# Altium integrated library Analog_Devices_Power_Management_Linear_Regulators.IntLib: 441 symbols (part 22 of 23)
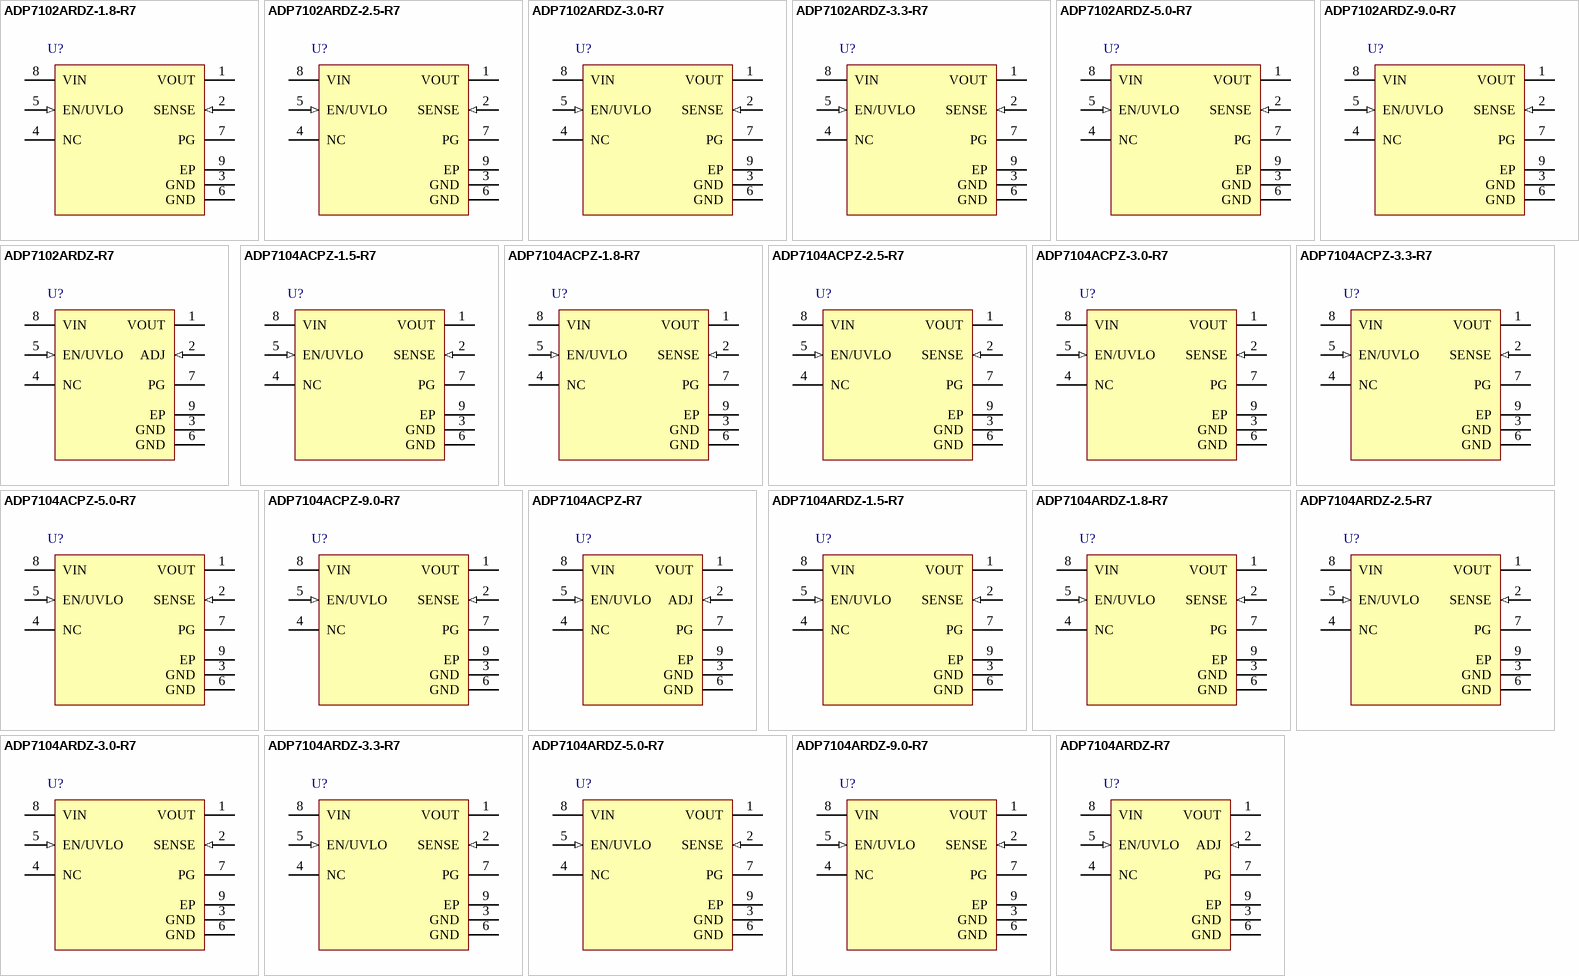
[diagram p32: symbols ADP7102ARDZ-1.8-R7 to ADP7104ARDZ-R7]

## ADP7102ARDZ-2.5-R7
designator U?
300 mA, Low Noise, CMOS LDO, 3.3 to 20 V Vin, 2.5 V Vout, Industrial, 8-pin SOIC (RD-8-2), Reel; Manufacturer: Analog Devices; PartNumber: ADP7102ARDZ-2.5-R7; Iout max: 300mA; Preset Vout Values (V): 2.5; Supply Current IGND @ Small Load: 400uA; Vin (max) (V): 20; Vin (min) (V): 3.3; DatasheetVersion: Rev. A; PackageVersion: Jan-05; PackageReference: RD-8-2; PackageDescription: 8-Pin Standard Small Outline Package, Body 4.9 x 3.9 mm, Pitch 1.27 mm; Supplier 1: Digi-Key; Supplier Part Number 1: ADP7102ARDZ-2.5-R7TR-ND; Supplier 2: Digi-Key; Supplier Part Number 2: ADP7102ARDZ-2.5-R7CT-ND; Supplier 3: Digi-Key; Supplier Part Number 3: ADP7102ARDZ-2.5-R7DKR-ND; Supplier 4: Newark; Supplier Part Number 4: 90T1351; Supplier 5: Mouser; Supplier Part Number 5: 584-ADP7102ARDZ2.5R7; Packing: Reel; Mounting Technology: Surface Mount; Code_JEDEC: MS-012-AA; ComponentLink1Description: Manufacturer URL; ComponentLink1URL: http://www.analog.com/en/index.html; ComponentLink2Description: Datasheet; ComponentLink2URL: http://www.analog.com/static/imported-files/data_sheets/ADP7102.pdf; ComponentLink3Description: Package Specification; ComponentLink3URL: http://www.analog.com/static/imported-files/packages/62062404671038RD_8_2.pdf; ComponentLink4Description: URL Link1; ComponentLink4URL: Product URL:http://www.analog.com/en/ADP7102/productSearch.html
footprint ADI-RD-8-2_N (SOIC, 8-Leads, Body 4.9x3.9mm, Pitch 1.27mm, Thermal Pad 3.098x2.41mm, IPC Medium Density)
footprint ADI-RD-8-2_L (SOIC, 8-Leads, Body 4.9x3.9mm, Pitch 1.27mm, Thermal Pad 3.098x2.41mm, IPC High Density)
footprint ADI-RD-8-2_M (SOIC, 8-Leads, Body 4.9x3.9mm, Pitch 1.27mm, Thermal Pad 3.098x2.41mm, IPC Low Density)
pins: 1 VOUT (power) "Regulated Output Voltage. Bypass VOUT to GND with a 1 uF or greater capacitor.", 2 SENSE (in), 3 GND (power) "Ground.", 4 NC "Do Not Connect to this Pin.", 5 EN/UVLO (in), 6 GND (power) "Ground.", 7 PG (oc) "Power Good. This open-drain output requires an external pull-up resistor to VIN or VOUT. If the part is in shutdown, current limit, thermal shutdown, or falls below 90% of the nominal output voltage, PG immediately (See Datasheet)", 8 VIN (power) "Regulator Input Supply. Bypass VIN to GND with a 1 uF or greater capacitor.", 9 EP (power) "Exposed Pad. Exposed paddle on the bottom of the package. The EPAD enhances thermal performance and is electrically connected to GND inside the package. It is highly recommended that the EPAD be connected to the ground plane (See Datasheet)"

## ADP7102ARDZ-3.0-R7
designator U?
300 mA, Low Noise, CMOS LDO, 3.3 to 20 V Vin, 3 V Vout, Industrial, 8-pin SOIC (RD-8-2), Reel; Manufacturer: Analog Devices; PartNumber: ADP7102ARDZ-3.0-R7; Iout max: 300mA; Preset Vout Values (V): 3.0; Supply Current IGND @ Small Load: 400uA; Vin (max) (V): 20; Vin (min) (V): 3.3; DatasheetVersion: Rev. A; PackageVersion: Jan-05; PackageReference: RD-8-2; PackageDescription: 8-Pin Standard Small Outline Package, Body 4.9 x 3.9 mm, Pitch 1.27 mm; Supplier 1: Digi-Key; Supplier Part Number 1: ADP7102ARDZ-3.0-R7TR-ND; Supplier 2: Digi-Key; Supplier Part Number 2: ADP7102ARDZ-3.0-R7CT-ND; Supplier 3: Digi-Key; Supplier Part Number 3: ADP7102ARDZ-3.0-R7DKR-ND; Supplier 4: Mouser; Supplier Part Number 4: 584-ADP7102ARDZ3.0R7; Packing: Reel; Mounting Technology: Surface Mount; Code_JEDEC: MS-012-AA; ComponentLink1Description: Manufacturer URL; ComponentLink1URL: http://www.analog.com/en/index.html; ComponentLink2Description: Datasheet; ComponentLink2URL: http://www.analog.com/static/imported-files/data_sheets/ADP7102.pdf; ComponentLink3Description: Package Specification; ComponentLink3URL: http://www.analog.com/static/imported-files/packages/62062404671038RD_8_2.pdf; ComponentLink4Description: URL Link1; ComponentLink4URL: Product URL:http://www.analog.com/en/ADP7102/productSearch.html
footprint ADI-RD-8-2_N (SOIC, 8-Leads, Body 4.9x3.9mm, Pitch 1.27mm, Thermal Pad 3.098x2.41mm, IPC Medium Density)
footprint ADI-RD-8-2_L (SOIC, 8-Leads, Body 4.9x3.9mm, Pitch 1.27mm, Thermal Pad 3.098x2.41mm, IPC High Density)
footprint ADI-RD-8-2_M (SOIC, 8-Leads, Body 4.9x3.9mm, Pitch 1.27mm, Thermal Pad 3.098x2.41mm, IPC Low Density)
pins: 1 VOUT (power) "Regulated Output Voltage. Bypass VOUT to GND with a 1 uF or greater capacitor.", 2 SENSE (in), 3 GND (power) "Ground.", 4 NC "Do Not Connect to this Pin.", 5 EN/UVLO (in), 6 GND (power) "Ground.", 7 PG (oc) "Power Good. This open-drain output requires an external pull-up resistor to VIN or VOUT. If the part is in shutdown, current limit, thermal shutdown, or falls below 90% of the nominal output voltage, PG immediately (See Datasheet)", 8 VIN (power) "Regulator Input Supply. Bypass VIN to GND with a 1 uF or greater capacitor.", 9 EP (power) "Exposed Pad. Exposed paddle on the bottom of the package. The EPAD enhances thermal performance and is electrically connected to GND inside the package. It is highly recommended that the EPAD be connected to the ground plane (See Datasheet)"

## ADP7102ARDZ-3.3-R7
designator U?
300 mA, Low Noise, CMOS LDO, 3.3 to 20 V Vin, 3.3 V Vout, Industrial, 8-pin SOIC (RD-8-2), Reel; Manufacturer: Analog Devices; PartNumber: ADP7102ARDZ-3.3-R7; Iout max: 300mA; Preset Vout Values (V): 3.3; Supply Current IGND @ Small Load: 400uA; Vin (max) (V): 20; DatasheetVersion: Rev. A; PackageVersion: Jan-05; PackageReference: RD-8-2; PackageDescription: 8-Pin Standard Small Outline Package, Body 4.9 x 3.9 mm, Pitch 1.27 mm; Supplier 1: Digi-Key; Supplier Part Number 1: ADP7102ARDZ-3.3-R7TR-ND; Supplier 2: Digi-Key; Supplier Part Number 2: ADP7102ARDZ-3.3-R7CT-ND; Supplier 3: Digi-Key; Supplier Part Number 3: ADP7102ARDZ-3.3-R7DKR-ND; Supplier 4: Newark; Supplier Part Number 4: 90T1353; Supplier 5: Mouser; Supplier Part Number 5: 584-ADP7102ARDZ3.3R7; Packing: Reel; Vin (min) (V): 3.3; Mounting Technology: Surface Mount; Code_JEDEC: MS-012-AA; ComponentLink1Description: Manufacturer URL; ComponentLink1URL: http://www.analog.com/en/index.html; ComponentLink2Description: Datasheet; ComponentLink2URL: http://www.analog.com/static/imported-files/data_sheets/ADP7102.pdf; ComponentLink3Description: Package Specification; ComponentLink3URL: http://www.analog.com/static/imported-files/packages/62062404671038RD_8_2.pdf; ComponentLink4Description: URL Link1; ComponentLink4URL: Product URL:http://www.analog.com/en/ADP7102/productSearch.html
footprint ADI-RD-8-2_N (SOIC, 8-Leads, Body 4.9x3.9mm, Pitch 1.27mm, Thermal Pad 3.098x2.41mm, IPC Medium Density)
footprint ADI-RD-8-2_L (SOIC, 8-Leads, Body 4.9x3.9mm, Pitch 1.27mm, Thermal Pad 3.098x2.41mm, IPC High Density)
footprint ADI-RD-8-2_M (SOIC, 8-Leads, Body 4.9x3.9mm, Pitch 1.27mm, Thermal Pad 3.098x2.41mm, IPC Low Density)
pins: 1 VOUT (power) "Regulated Output Voltage. Bypass VOUT to GND with a 1 uF or greater capacitor.", 2 SENSE (in), 3 GND (power) "Ground.", 4 NC "Do Not Connect to this Pin.", 5 EN/UVLO (in), 6 GND (power) "Ground.", 7 PG (oc) "Power Good. This open-drain output requires an external pull-up resistor to VIN or VOUT. If the part is in shutdown, current limit, thermal shutdown, or falls below 90% of the nominal output voltage, PG immediately (See Datasheet)", 8 VIN (power) "Regulator Input Supply. Bypass VIN to GND with a 1 uF or greater capacitor.", 9 EP (power) "Exposed Pad. Exposed paddle on the bottom of the package. The EPAD enhances thermal performance and is electrically connected to GND inside the package. It is highly recommended that the EPAD be connected to the ground plane (See Datasheet)"

## ADP7102ARDZ-5.0-R7
designator U?
300 mA, Low Noise, CMOS LDO, 3.3 to 20 V Vin, 5 V Vout, Industrial, 8-pin SOIC (RD-8-2), Reel; Manufacturer: Analog Devices; PartNumber: ADP7102ARDZ-5.0-R7; Iout max: 300mA; Preset Vout Values (V): 5.0; Supply Current IGND @ Small Load: 400uA; Vin (max) (V): 20; Vin (min) (V): 3.3; DatasheetVersion: Rev. A; PackageVersion: Jan-05; PackageReference: RD-8-2; PackageDescription: 8-Pin Standard Small Outline Package, Body 4.9 x 3.9 mm, Pitch 1.27 mm; Supplier 1: Digi-Key; Supplier Part Number 1: ADP7102ARDZ-5.0-R7TR-ND; Supplier 2: Digi-Key; Supplier Part Number 2: ADP7102ARDZ-5.0-R7CT-ND; Supplier 3: Digi-Key; Supplier Part Number 3: ADP7102ARDZ-5.0-R7DKR-ND; Supplier 4: Newark; Supplier Part Number 4: 90T1354; Supplier 5: Mouser; Supplier Part Number 5: 584-ADP7102ARDZ5.0R7; Packing: Reel; Mounting Technology: Surface Mount; Code_JEDEC: MS-012-AA; ComponentLink1Description: Manufacturer URL; ComponentLink1URL: http://www.analog.com/en/index.html; ComponentLink2Description: Datasheet; ComponentLink2URL: http://www.analog.com/static/imported-files/data_sheets/ADP7102.pdf; ComponentLink3Description: Package Specification; ComponentLink3URL: http://www.analog.com/static/imported-files/packages/62062404671038RD_8_2.pdf; ComponentLink4Description: URL Link1; ComponentLink4URL: Product URL:http://www.analog.com/en/ADP7102/productSearch.html
footprint ADI-RD-8-2_N (SOIC, 8-Leads, Body 4.9x3.9mm, Pitch 1.27mm, Thermal Pad 3.098x2.41mm, IPC Medium Density)
footprint ADI-RD-8-2_L (SOIC, 8-Leads, Body 4.9x3.9mm, Pitch 1.27mm, Thermal Pad 3.098x2.41mm, IPC High Density)
footprint ADI-RD-8-2_M (SOIC, 8-Leads, Body 4.9x3.9mm, Pitch 1.27mm, Thermal Pad 3.098x2.41mm, IPC Low Density)
pins: 1 VOUT (power) "Regulated Output Voltage. Bypass VOUT to GND with a 1 uF or greater capacitor.", 2 SENSE (in), 3 GND (power) "Ground.", 4 NC "Do Not Connect to this Pin.", 5 EN/UVLO (in), 6 GND (power) "Ground.", 7 PG (oc) "Power Good. This open-drain output requires an external pull-up resistor to VIN or VOUT. If the part is in shutdown, current limit, thermal shutdown, or falls below 90% of the nominal output voltage, PG immediately (See Datasheet)", 8 VIN (power) "Regulator Input Supply. Bypass VIN to GND with a 1 uF or greater capacitor.", 9 EP (power) "Exposed Pad. Exposed paddle on the bottom of the package. The EPAD enhances thermal performance and is electrically connected to GND inside the package. It is highly recommended that the EPAD be connected to the ground plane (See Datasheet)"

## ADP7102ARDZ-9.0-R7
designator U?
300 mA, Low Noise, CMOS LDO, 3.3 to 20 V Vin, 9 V Vout, Industrial, 8-pin SOIC (RD-8-2), Reel; Manufacturer: Analog Devices; PartNumber: ADP7102ARDZ-9.0-R7; Iout max: 300mA; Preset Vout Values (V): 9.0; Supply Current IGND @ Small Load: 400uA; Vin (max) (V): 20; Vin (min) (V): 3.3; DatasheetVersion: Rev. A; PackageVersion: Jan-05; PackageReference: RD-8-2; PackageDescription: 8-Pin Standard Small Outline Package, Body 4.9 x 3.9 mm, Pitch 1.27 mm; Supplier 1: Digi-Key; Supplier Part Number 1: ADP7102ARDZ-9.0-R7TR-ND; Supplier 2: Digi-Key; Supplier Part Number 2: ADP7102ARDZ-9.0-R7CT-ND; Supplier 3: Digi-Key; Supplier Part Number 3: ADP7102ARDZ-9.0-R7DKR-ND; Supplier 4: Mouser; Supplier Part Number 4: 584-ADP7102ARDZ9.0R7; Packing: Reel; Mounting Technology: Surface Mount; Code_JEDEC: MS-012-AA; ComponentLink1Description: Manufacturer URL; ComponentLink1URL: http://www.analog.com/en/index.html; ComponentLink2Description: Datasheet; ComponentLink2URL: http://www.analog.com/static/imported-files/data_sheets/ADP7102.pdf; ComponentLink3Description: Package Specification; ComponentLink3URL: http://www.analog.com/static/imported-files/packages/62062404671038RD_8_2.pdf; ComponentLink4Description: URL Link1; ComponentLink4URL: Product URL:http://www.analog.com/en/ADP7102/productSearch.html
footprint ADI-RD-8-2_N (SOIC, 8-Leads, Body 4.9x3.9mm, Pitch 1.27mm, Thermal Pad 3.098x2.41mm, IPC Medium Density)
footprint ADI-RD-8-2_L (SOIC, 8-Leads, Body 4.9x3.9mm, Pitch 1.27mm, Thermal Pad 3.098x2.41mm, IPC High Density)
footprint ADI-RD-8-2_M (SOIC, 8-Leads, Body 4.9x3.9mm, Pitch 1.27mm, Thermal Pad 3.098x2.41mm, IPC Low Density)
pins: 1 VOUT (power) "Regulated Output Voltage. Bypass VOUT to GND with a 1 uF or greater capacitor.", 2 SENSE (in), 3 GND (power) "Ground.", 4 NC "Do Not Connect to this Pin.", 5 EN/UVLO (in), 6 GND (power) "Ground.", 7 PG (oc) "Power Good. This open-drain output requires an external pull-up resistor to VIN or VOUT. If the part is in shutdown, current limit, thermal shutdown, or falls below 90% of the nominal output voltage, PG immediately (See Datasheet)", 8 VIN (power) "Regulator Input Supply. Bypass VIN to GND with a 1 uF or greater capacitor.", 9 EP (power) "Exposed Pad. Exposed paddle on the bottom of the package. The EPAD enhances thermal performance and is electrically connected to GND inside the package. It is highly recommended that the EPAD be connected to the ground plane (See Datasheet)"

## ADP7102ARDZ-R7
designator U?
300 mA, Low Noise, CMOS LDO, 3.3 to 20 V Vin, 1.22 to Vin-Vdo Vout, Industrial, 8-pin SOIC (RD-8-2), Reel; Manufacturer: Analog Devices; PartNumber: ADP7102ARDZ-R7; Iout max: 300mA; Supply Current IGND @ Small Load: 400uA; Vin (max) (V): 20; Vin (min) (V): 3.3; Vout Adjustable Range: 1.22V to 19V; DatasheetVersion: Rev. A; PackageVersion: Jan-05; PackageReference: RD-8-2; PackageDescription: 8-Pin Standard Small Outline Package, Body 4.9 x 3.9 mm, Pitch 1.27 mm; Supplier 1: Digi-Key; Supplier Part Number 1: ADP7102ARDZ-R7TR-ND; Supplier 2: Digi-Key; Supplier Part Number 2: ADP7102ARDZ-R7CT-ND; Supplier 3: Digi-Key; Supplier Part Number 3: ADP7102ARDZ-R7DKR-ND; Supplier 4: Farnell; Supplier Part Number 4: 2070696; Supplier 5: Newark; Supplier Part Number 5: 82T5465; Supplier 6: Newark; Supplier Part Number 6: 72T3550; Supplier 7: Mouser; Supplier Part Number 7: 584-ADP7102ARDZ-R7; Packing: Reel; Mounting Technology: Surface Mount; Code_JEDEC: MS-012-AA; ComponentLink1Description: Manufacturer URL; ComponentLink1URL: http://www.analog.com/en/index.html; ComponentLink2Description: Datasheet; ComponentLink2URL: http://www.analog.com/static/imported-files/data_sheets/ADP7102.pdf; ComponentLink3Description: Package Specification; ComponentLink3URL: http://www.analog.com/static/imported-files/packages/62062404671038RD_8_2.pdf; ComponentLink4Description: URL Link1; ComponentLink4URL: Product URL:http://www.analog.com/en/ADP7102/productSearch.html
footprint ADI-RD-8-2_N (SOIC, 8-Leads, Body 4.9x3.9mm, Pitch 1.27mm, Thermal Pad 3.098x2.41mm, IPC Medium Density)
footprint ADI-RD-8-2_L (SOIC, 8-Leads, Body 4.9x3.9mm, Pitch 1.27mm, Thermal Pad 3.098x2.41mm, IPC High Density)
footprint ADI-RD-8-2_M (SOIC, 8-Leads, Body 4.9x3.9mm, Pitch 1.27mm, Thermal Pad 3.098x2.41mm, IPC Low Density)
pins: 1 VOUT (power) "Regulated Output Voltage. Bypass VOUT to GND with a 1 uF or greater capacitor.", 2 ADJ (in) "Adjust Input (ADJ). An external resistor divider sets the output voltage.", 3 GND (power) "Ground.", 4 NC "Do Not Connect to this Pin.", 5 EN/UVLO (in), 6 GND (power) "Ground.", 7 PG (oc) "Power Good. This open-drain output requires an external pull-up resistor to VIN or VOUT. If the part is in shutdown, current limit, thermal shutdown, or falls below 90% of the nominal output voltage, PG immediately (See Datasheet)", 8 VIN (power) "Regulator Input Supply. Bypass VIN to GND with a 1 uF or greater capacitor.", 9 EP (power) "Exposed Pad. Exposed paddle on the bottom of the package. The EPAD enhances thermal performance and is electrically connected to GND inside the package. It is highly recommended that the EPAD be connected to the ground plane (See Datasheet)"

## ADP7104ACPZ-1.5-R7
designator U?
500 mA, Low Noise, CMOS LDO, 3.3 to 20 V Vin, 1.5 V Vout, Industrial, 8-pin SON (CP-8-5), Reel; Manufacturer: Analog Devices; PartNumber: ADP7104ACPZ-1.5-R7; Iout max: 500mA; Preset Vout Values (V): 1.5; Supply Current IGND @ Small Load: 400uA; Vin (max) (V): 20; Vin (min) (V): 3.3; DatasheetVersion: Rev. B; PackageVersion: 031208-A, 03/2008; PackageReference: CP-8-5; PackageDescription: 8-Pin Lead Frame Chip Scale Package, Body 3 x 3 mm, Pitch 0.5 mm; Supplier 1: Digi-Key; Supplier Part Number 1: ADP7104ACPZ-1.5-R7TR-ND; Supplier 2: Digi-Key; Supplier Part Number 2: ADP7104ACPZ-1.5-R7CT-ND; Supplier 3: Digi-Key; Supplier Part Number 3: ADP7104ACPZ-1.5-R7DKR-ND; Supplier 4: Newark; Supplier Part Number 4: 43W5499; Supplier 5: Mouser; Supplier Part Number 5: 584-ADP7104ACPZ1.5R7; Packing: Reel; Mounting Technology: Surface Mount; ComponentLink1Description: Manufacturer URL; ComponentLink1URL: http://www.analog.com/en/index.html; ComponentLink2Description: Datasheet; ComponentLink2URL: http://www.analog.com/static/imported-files/data_sheets/ADP7104.pdf; ComponentLink3Description: Package Specification; ComponentLink3URL: http://www.analog.com/static/imported-files/packages/PKG_PDF/LFCSP(CP)/CP_8_5.pdf; ComponentLink4Description: URL Link1; ComponentLink4URL: Product URL:http://www.analog.com/en/ADP7104/productSearch.html
footprint ADI-CP-8-5_V (SON, 8-Leads, Body 3x3mm, Pitch 0.5mm, Thermal Pad 1.74x2.38mm)
pins: 1 VOUT (power) "Regulated Output Voltage. Bypass VOUT to GND with a 1 uF or greater capacitor.", 2 SENSE (in), 3 GND (power) "Ground.", 4 NC "Do Not Connect to this Pin.", 5 EN/UVLO (in), 6 GND (power) "Ground.", 7 PG (oc) "Power Good. This open-drain output requires an external pull-up resistor to VIN or VOUT. If the part is in shutdown, current limit, thermal shutdown, or falls below 90% of the nominal output voltage, PG immediately (See Datasheet)", 8 VIN (power) "Regulator Input Supply. Bypass VIN to GND with a 1 uF or greater capacitor.", 9 EP (power) "Exposed Pad. Exposed paddle on the bottom of the package. The EPAD enhances thermal performance and is electrically connected to GND inside the package. It is highly recommended that the EPAD be connected to the ground plane (See Datasheet)"

## ADP7104ACPZ-1.8-R7
designator U?
500 mA, Low Noise, CMOS LDO, 3.3 to 20 V Vin, 1.8 V Vout, Industrial, 8-pin SON (CP-8-5), Reel; Manufacturer: Analog Devices; PartNumber: ADP7104ACPZ-1.8-R7; Iout max: 500mA; Preset Vout Values (V): 1.8; Supply Current IGND @ Small Load: 400uA; Vin (max) (V): 20; Vin (min) (V): 3.3; DatasheetVersion: Rev. B; PackageVersion: 031208-A, 03/2008; PackageReference: CP-8-5; PackageDescription: 8-Pin Lead Frame Chip Scale Package, Body 3 x 3 mm, Pitch 0.5 mm; Supplier 1: Digi-Key; Supplier Part Number 1: ADP7104ACPZ-1.8-R7TR-ND; Supplier 2: Digi-Key; Supplier Part Number 2: ADP7104ACPZ-1.8-R7CT-ND; Supplier 3: Digi-Key; Supplier Part Number 3: ADP7104ACPZ-1.8-R7DKR-ND; Supplier 4: Newark; Supplier Part Number 4: 43W5500; Supplier 5: Mouser; Supplier Part Number 5: 584-ADP7104ACPZ1.8R7; Packing: Reel; Mounting Technology: Surface Mount; ComponentLink1Description: Manufacturer URL; ComponentLink1URL: http://www.analog.com/en/index.html; ComponentLink2Description: Datasheet; ComponentLink2URL: http://www.analog.com/static/imported-files/data_sheets/ADP7104.pdf; ComponentLink3Description: Package Specification; ComponentLink3URL: http://www.analog.com/static/imported-files/packages/PKG_PDF/LFCSP(CP)/CP_8_5.pdf; ComponentLink4Description: URL Link1; ComponentLink4URL: Product URL:http://www.analog.com/en/ADP7104/productSearch.html
footprint ADI-CP-8-5_V (SON, 8-Leads, Body 3x3mm, Pitch 0.5mm, Thermal Pad 1.74x2.38mm)
pins: 1 VOUT (power) "Regulated Output Voltage. Bypass VOUT to GND with a 1 uF or greater capacitor.", 2 SENSE (in), 3 GND (power) "Ground.", 4 NC "Do Not Connect to this Pin.", 5 EN/UVLO (in), 6 GND (power) "Ground.", 7 PG (oc) "Power Good. This open-drain output requires an external pull-up resistor to VIN or VOUT. If the part is in shutdown, current limit, thermal shutdown, or falls below 90% of the nominal output voltage, PG immediately (See Datasheet)", 8 VIN (power) "Regulator Input Supply. Bypass VIN to GND with a 1 uF or greater capacitor.", 9 EP (power) "Exposed Pad. Exposed paddle on the bottom of the package. The EPAD enhances thermal performance and is electrically connected to GND inside the package. It is highly recommended that the EPAD be connected to the ground plane (See Datasheet)"

## ADP7104ACPZ-2.5-R7
designator U?
500 mA, Low Noise, CMOS LDO, 3.3 to 20 V Vin, 2.5 V Vout, Industrial, 8-pin SON (CP-8-5), Reel; Manufacturer: Analog Devices; PartNumber: ADP7104ACPZ-2.5-R7; Iout max: 500mA; Preset Vout Values (V): 2.5; Supply Current IGND @ Small Load: 400uA; Vin (max) (V): 20; Vin (min) (V): 3.3; DatasheetVersion: Rev. B; PackageVersion: 031208-A, 03/2008; PackageReference: CP-8-5; PackageDescription: 8-Pin Lead Frame Chip Scale Package, Body 3 x 3 mm, Pitch 0.5 mm; Supplier 1: Digi-Key; Supplier Part Number 1: ADP7104ACPZ-2.5-R7TR-ND; Supplier 2: Digi-Key; Supplier Part Number 2: ADP7104ACPZ-2.5-R7CT-ND; Supplier 3: Digi-Key; Supplier Part Number 3: ADP7104ACPZ-2.5-R7DKR-ND; Supplier 4: Mouser; Supplier Part Number 4: 584-ADP7104ACPZ2.5R7; Packing: Reel; Mounting Technology: Surface Mount; ComponentLink1Description: Manufacturer URL; ComponentLink1URL: http://www.analog.com/en/index.html; ComponentLink2Description: Datasheet; ComponentLink2URL: http://www.analog.com/static/imported-files/data_sheets/ADP7104.pdf; ComponentLink3Description: Package Specification; ComponentLink3URL: http://www.analog.com/static/imported-files/packages/PKG_PDF/LFCSP(CP)/CP_8_5.pdf; ComponentLink4Description: URL Link1; ComponentLink4URL: Product URL:http://www.analog.com/en/ADP7104/productSearch.html
footprint ADI-CP-8-5_V (SON, 8-Leads, Body 3x3mm, Pitch 0.5mm, Thermal Pad 1.74x2.38mm)
pins: 1 VOUT (power) "Regulated Output Voltage. Bypass VOUT to GND with a 1 uF or greater capacitor.", 2 SENSE (in), 3 GND (power) "Ground.", 4 NC "Do Not Connect to this Pin.", 5 EN/UVLO (in), 6 GND (power) "Ground.", 7 PG (oc) "Power Good. This open-drain output requires an external pull-up resistor to VIN or VOUT. If the part is in shutdown, current limit, thermal shutdown, or falls below 90% of the nominal output voltage, PG immediately (See Datasheet)", 8 VIN (power) "Regulator Input Supply. Bypass VIN to GND with a 1 uF or greater capacitor.", 9 EP (power) "Exposed Pad. Exposed paddle on the bottom of the package. The EPAD enhances thermal performance and is electrically connected to GND inside the package. It is highly recommended that the EPAD be connected to the ground plane (See Datasheet)"

## ADP7104ACPZ-3.0-R7
designator U?
500 mA, Low Noise, CMOS LDO, 3.3 to 20 V Vin, 3 V Vout, Industrial, 8-pin SON (CP-8-5), Reel; Manufacturer: Analog Devices; PartNumber: ADP7104ACPZ-3.0-R7; Iout max: 500mA; Preset Vout Values (V): 3.0; Supply Current IGND @ Small Load: 400uA; Vin (max) (V): 20; Vin (min) (V): 3.3; DatasheetVersion: Rev. B; PackageVersion: 031208-A, 03/2008; PackageReference: CP-8-5; PackageDescription: 8-Pin Lead Frame Chip Scale Package, Body 3 x 3 mm, Pitch 0.5 mm; Supplier 1: Digi-Key; Supplier Part Number 1: ADP7104ACPZ-3.0-R7TR-ND; Supplier 2: Digi-Key; Supplier Part Number 2: ADP7104ACPZ-3.0-R7CT-ND; Supplier 3: Digi-Key; Supplier Part Number 3: ADP7104ACPZ-3.0-R7DKR-ND; Supplier 4: Mouser; Supplier Part Number 4: 584-ADP7104ACPZ3.0R7; Packing: Reel; Mounting Technology: Surface Mount; ComponentLink1Description: Manufacturer URL; ComponentLink1URL: http://www.analog.com/en/index.html; ComponentLink2Description: Datasheet; ComponentLink2URL: http://www.analog.com/static/imported-files/data_sheets/ADP7104.pdf; ComponentLink3Description: Package Specification; ComponentLink3URL: http://www.analog.com/static/imported-files/packages/PKG_PDF/LFCSP(CP)/CP_8_5.pdf; ComponentLink4Description: URL Link1; ComponentLink4URL: Product URL:http://www.analog.com/en/ADP7104/productSearch.html
footprint ADI-CP-8-5_V (SON, 8-Leads, Body 3x3mm, Pitch 0.5mm, Thermal Pad 1.74x2.38mm)
pins: 1 VOUT (power) "Regulated Output Voltage. Bypass VOUT to GND with a 1 uF or greater capacitor.", 2 SENSE (in), 3 GND (power) "Ground.", 4 NC "Do Not Connect to this Pin.", 5 EN/UVLO (in), 6 GND (power) "Ground.", 7 PG (oc) "Power Good. This open-drain output requires an external pull-up resistor to VIN or VOUT. If the part is in shutdown, current limit, thermal shutdown, or falls below 90% of the nominal output voltage, PG immediately (See Datasheet)", 8 VIN (power) "Regulator Input Supply. Bypass VIN to GND with a 1 uF or greater capacitor.", 9 EP (power) "Exposed Pad. Exposed paddle on the bottom of the package. The EPAD enhances thermal performance and is electrically connected to GND inside the package. It is highly recommended that the EPAD be connected to the ground plane (See Datasheet)"

## ADP7104ACPZ-3.3-R7
designator U?
500 mA, Low Noise, CMOS LDO, 3.3 to 20 V Vin, 3.3 V Vout, Industrial, 8-pin SON (CP-8-5), Reel; Manufacturer: Analog Devices; PartNumber: ADP7104ACPZ-3.3-R7; Iout max: 500mA; Preset Vout Values (V): 3.3; Supply Current IGND @ Small Load: 400uA; Vin (max) (V): 20; DatasheetVersion: Rev. B; PackageVersion: 031208-A, 03/2008; PackageReference: CP-8-5; PackageDescription: 8-Pin Lead Frame Chip Scale Package, Body 3 x 3 mm, Pitch 0.5 mm; Supplier 1: Digi-Key; Supplier Part Number 1: ADP7104ACPZ-3.3-R7TR-ND; Supplier 2: Digi-Key; Supplier Part Number 2: ADP7104ACPZ-3.3-R7CT-ND; Supplier 3: Digi-Key; Supplier Part Number 3: ADP7104ACPZ-3.3-R7DKR-ND; Supplier 4: Newark; Supplier Part Number 4: 43W5503; Supplier 5: Mouser; Supplier Part Number 5: 584-ADP7104ACPZ3.3R7; Packing: Reel; Vin (min) (V): 3.3; Mounting Technology: Surface Mount; ComponentLink1Description: Manufacturer URL; ComponentLink1URL: http://www.analog.com/en/index.html; ComponentLink2Description: Datasheet; ComponentLink2URL: http://www.analog.com/static/imported-files/data_sheets/ADP7104.pdf; ComponentLink3Description: Package Specification; ComponentLink3URL: http://www.analog.com/static/imported-files/packages/PKG_PDF/LFCSP(CP)/CP_8_5.pdf; ComponentLink4Description: URL Link1; ComponentLink4URL: Product URL:http://www.analog.com/en/ADP7104/productSearch.html
footprint ADI-CP-8-5_V (SON, 8-Leads, Body 3x3mm, Pitch 0.5mm, Thermal Pad 1.74x2.38mm)
pins: 1 VOUT (power) "Regulated Output Voltage. Bypass VOUT to GND with a 1 uF or greater capacitor.", 2 SENSE (in), 3 GND (power) "Ground.", 4 NC "Do Not Connect to this Pin.", 5 EN/UVLO (in), 6 GND (power) "Ground.", 7 PG (oc) "Power Good. This open-drain output requires an external pull-up resistor to VIN or VOUT. If the part is in shutdown, current limit, thermal shutdown, or falls below 90% of the nominal output voltage, PG immediately (See Datasheet)", 8 VIN (power) "Regulator Input Supply. Bypass VIN to GND with a 1 uF or greater capacitor.", 9 EP (power) "Exposed Pad. Exposed paddle on the bottom of the package. The EPAD enhances thermal performance and is electrically connected to GND inside the package. It is highly recommended that the EPAD be connected to the ground plane (See Datasheet)"

## ADP7104ACPZ-5.0-R7
designator U?
500 mA, Low Noise, CMOS LDO, 3.3 to 20 V Vin, 5 V Vout, Industrial, 8-pin SON (CP-8-5), Reel; Manufacturer: Analog Devices; PartNumber: ADP7104ACPZ-5.0-R7; Iout max: 500mA; Preset Vout Values (V): 5.0; Supply Current IGND @ Small Load: 400uA; Vin (max) (V): 20; Vin (min) (V): 3.3; DatasheetVersion: Rev. B; PackageVersion: 031208-A, 03/2008; PackageReference: CP-8-5; PackageDescription: 8-Pin Lead Frame Chip Scale Package, Body 3 x 3 mm, Pitch 0.5 mm; Supplier 1: Digi-Key; Supplier Part Number 1: ADP7104ACPZ-5.0-R7TR-ND; Supplier 2: Digi-Key; Supplier Part Number 2: ADP7104ACPZ-5.0-R7CT-ND; Supplier 3: Digi-Key; Supplier Part Number 3: ADP7104ACPZ-5.0-R7DKR-ND; Supplier 4: Newark; Supplier Part Number 4: 43W5504; Supplier 5: Mouser; Supplier Part Number 5: 584-ADP7104ACPZ5.0R7; Packing: Reel; Mounting Technology: Surface Mount; ComponentLink1Description: Manufacturer URL; ComponentLink1URL: http://www.analog.com/en/index.html; ComponentLink2Description: Datasheet; ComponentLink2URL: http://www.analog.com/static/imported-files/data_sheets/ADP7104.pdf; ComponentLink3Description: Package Specification; ComponentLink3URL: http://www.analog.com/static/imported-files/packages/PKG_PDF/LFCSP(CP)/CP_8_5.pdf; ComponentLink4Description: URL Link1; ComponentLink4URL: Product URL:http://www.analog.com/en/ADP7104/productSearch.html
footprint ADI-CP-8-5_V (SON, 8-Leads, Body 3x3mm, Pitch 0.5mm, Thermal Pad 1.74x2.38mm)
pins: 1 VOUT (power) "Regulated Output Voltage. Bypass VOUT to GND with a 1 uF or greater capacitor.", 2 SENSE (in), 3 GND (power) "Ground.", 4 NC "Do Not Connect to this Pin.", 5 EN/UVLO (in), 6 GND (power) "Ground.", 7 PG (oc) "Power Good. This open-drain output requires an external pull-up resistor to VIN or VOUT. If the part is in shutdown, current limit, thermal shutdown, or falls below 90% of the nominal output voltage, PG immediately (See Datasheet)", 8 VIN (power) "Regulator Input Supply. Bypass VIN to GND with a 1 uF or greater capacitor.", 9 EP (power) "Exposed Pad. Exposed paddle on the bottom of the package. The EPAD enhances thermal performance and is electrically connected to GND inside the package. It is highly recommended that the EPAD be connected to the ground plane (See Datasheet)"

## ADP7104ACPZ-9.0-R7
designator U?
500 mA, Low Noise, CMOS LDO, 3.3 to 20 V Vin, 9 V Vout, Industrial, 8-pin SON (CP-8-5), Reel; Manufacturer: Analog Devices; PartNumber: ADP7104ACPZ-9.0-R7; Iout max: 500mA; Preset Vout Values (V): 9.0; Supply Current IGND @ Small Load: 400uA; Vin (max) (V): 20; Vin (min) (V): 3.3; DatasheetVersion: Rev. B; PackageVersion: 031208-A, 03/2008; PackageReference: CP-8-5; PackageDescription: 8-Pin Lead Frame Chip Scale Package, Body 3 x 3 mm, Pitch 0.5 mm; Supplier 1: Digi-Key; Supplier Part Number 1: ADP7104ACPZ-9.0-R7TR-ND; Supplier 2: Digi-Key; Supplier Part Number 2: ADP7104ACPZ-9.0-R7CT-ND; Supplier 3: Digi-Key; Supplier Part Number 3: ADP7104ACPZ-9.0-R7DKR-ND; Supplier 4: Mouser; Supplier Part Number 4: 584-ADP7104ACPZ9.0R7; Packing: Reel; Mounting Technology: Surface Mount; ComponentLink1Description: Manufacturer URL; ComponentLink1URL: http://www.analog.com/en/index.html; ComponentLink2Description: Datasheet; ComponentLink2URL: http://www.analog.com/static/imported-files/data_sheets/ADP7104.pdf; ComponentLink3Description: Package Specification; ComponentLink3URL: http://www.analog.com/static/imported-files/packages/PKG_PDF/LFCSP(CP)/CP_8_5.pdf; ComponentLink4Description: URL Link1; ComponentLink4URL: Product URL:http://www.analog.com/en/ADP7104/productSearch.html
footprint ADI-CP-8-5_V (SON, 8-Leads, Body 3x3mm, Pitch 0.5mm, Thermal Pad 1.74x2.38mm)
pins: 1 VOUT (power) "Regulated Output Voltage. Bypass VOUT to GND with a 1 uF or greater capacitor.", 2 SENSE (in), 3 GND (power) "Ground.", 4 NC "Do Not Connect to this Pin.", 5 EN/UVLO (in), 6 GND (power) "Ground.", 7 PG (oc) "Power Good. This open-drain output requires an external pull-up resistor to VIN or VOUT. If the part is in shutdown, current limit, thermal shutdown, or falls below 90% of the nominal output voltage, PG immediately (See Datasheet)", 8 VIN (power) "Regulator Input Supply. Bypass VIN to GND with a 1 uF or greater capacitor.", 9 EP (power) "Exposed Pad. Exposed paddle on the bottom of the package. The EPAD enhances thermal performance and is electrically connected to GND inside the package. It is highly recommended that the EPAD be connected to the ground plane (See Datasheet)"

## ADP7104ACPZ-R7
designator U?
500 mA, Low Noise, CMOS LDO, 3.3 to 20 V Vin, 1.21 to 1.23 V Vout, Industrial, 8-pin SON (CP-8-5), Reel; Manufacturer: Analog Devices; PartNumber: ADP7104ACPZ-R7; Iout max: 500mA; Supply Current IGND @ Small Load: 400uA; Vin (max) (V): 20; Vin (min) (V): 3.3; Vout Adjustable Range: 1.22V to 19V; DatasheetVersion: Rev. B; PackageVersion: 031208-A, 03/2008; PackageReference: CP-8-5; PackageDescription: 8-Pin Lead Frame Chip Scale Package, Body 3 x 3 mm, Pitch 0.5 mm; Supplier 1: Digi-Key; Supplier Part Number 1: ADP7104ACPZ-R7TR-ND; Supplier 2: Digi-Key; Supplier Part Number 2: ADP7104ACPZ-R7CT-ND; Supplier 3: Digi-Key; Supplier Part Number 3: ADP7104ACPZ-R7DKR-ND; Supplier 4: Newark; Supplier Part Number 4: 72T3551; Supplier 5: Mouser; Supplier Part Number 5: 584-ADP7104ACPZ-R7; Packing: Reel; Mounting Technology: Surface Mount; ComponentLink1Description: Manufacturer URL; ComponentLink1URL: http://www.analog.com/en/index.html; ComponentLink2Description: Datasheet; ComponentLink2URL: http://www.analog.com/static/imported-files/data_sheets/ADP7104.pdf; ComponentLink3Description: Package Specification; ComponentLink3URL: http://www.analog.com/static/imported-files/packages/PKG_PDF/LFCSP(CP)/CP_8_5.pdf; ComponentLink4Description: URL Link1; ComponentLink4URL: Product URL:http://www.analog.com/en/ADP7104/productSearch.html
footprint ADI-CP-8-5_V (SON, 8-Leads, Body 3x3mm, Pitch 0.5mm, Thermal Pad 1.74x2.38mm)
pins: 1 VOUT (power) "Regulated Output Voltage. Bypass VOUT to GND with a 1 uF or greater capacitor.", 2 ADJ (in) "Adjust Input (ADJ). An external resistor divider sets the output voltage. This function applies to adjustable voltages only.", 3 GND (power) "Ground.", 4 NC "Do Not Connect to this Pin.", 5 EN/UVLO (in) "Enable Input (EN). Drive EN high to turn on the regulator; drive EN low to turn off the regulator. For automatic startup, connect EN to VIN. Programmable Undervoltage Lockout (UVLO). When the programmable UVLO function is (See Datasheet)", 6 GND (power) "Ground.", 7 PG (oc) "Power Good. This open-drain output requires an external pull-up resistor to VIN or VOUT. If the part is in shutdown, current limit, thermal shutdown, or falls below 90% of the nominal output voltage, PG immediately (See Datasheet)", 8 VIN (power) "Regulator Input Supply. Bypass VIN to GND with a 1 uF or greater capacitor.", 9 EP (power) "Exposed Pad. Exposed paddle on the bottom of the package. The EPAD enhances thermal performance and is electrically connected to GND inside the package. It is highly recommended that the EPAD be connected to the ground plane (See Datasheet)"

## ADP7104ARDZ-1.5-R7
designator U?
500 mA, Low Noise, CMOS LDO, 3.3 to 20 V Vin, 1.5 V Vout, Industrial, 8-pin SOIC (RD-8-2), Reel; Manufacturer: Analog Devices; PartNumber: ADP7104ARDZ-1.5-R7; Iout max: 500mA; Preset Vout Values (V): 1.5; Supply Current IGND @ Small Load: 400uA; Vin (max) (V): 20; Vin (min) (V): 3.3; DatasheetVersion: Rev. B; PackageVersion: Jan-05; PackageReference: RD-8-2; PackageDescription: 8-Pin Standard Small Outline Package, Body 4.9 x 3.9 mm, Pitch 1.27 mm; Supplier 1: Digi-Key; Supplier Part Number 1: ADP7104ARDZ-1.5-R7TR-ND; Supplier 2: Digi-Key; Supplier Part Number 2: ADP7104ARDZ-1.5-R7CT-ND; Supplier 3: Digi-Key; Supplier Part Number 3: ADP7104ARDZ-1.5-R7DKR-ND; Supplier 4: Mouser; Supplier Part Number 4: 584-ADP7104ARDZ1.5R7; Packing: Reel; Mounting Technology: Surface Mount; Code_JEDEC: MS-012-AA; ComponentLink1Description: Manufacturer URL; ComponentLink1URL: http://www.analog.com/en/index.html; ComponentLink2Description: Datasheet; ComponentLink2URL: http://www.analog.com/static/imported-files/data_sheets/ADP7104.pdf; ComponentLink3Description: Package Specification; ComponentLink3URL: http://www.analog.com/static/imported-files/packages/62062404671038RD_8_2.pdf; ComponentLink4Description: URL Link1; ComponentLink4URL: Product URL:http://www.analog.com/en/ADP7104/productSearch.html
footprint ADI-RD-8-2_N (SOIC, 8-Leads, Body 4.9x3.9mm, Pitch 1.27mm, Thermal Pad 3.098x2.41mm, IPC Medium Density)
footprint ADI-RD-8-2_L (SOIC, 8-Leads, Body 4.9x3.9mm, Pitch 1.27mm, Thermal Pad 3.098x2.41mm, IPC High Density)
footprint ADI-RD-8-2_M (SOIC, 8-Leads, Body 4.9x3.9mm, Pitch 1.27mm, Thermal Pad 3.098x2.41mm, IPC Low Density)
pins: 1 VOUT (power) "Regulated Output Voltage. Bypass VOUT to GND with a 1 uF or greater capacitor.", 2 SENSE (in), 3 GND (power) "Ground.", 4 NC "Do Not Connect to this Pin.", 5 EN/UVLO (in), 6 GND (power) "Ground.", 7 PG (oc) "Power Good. This open-drain output requires an external pull-up resistor to VIN or VOUT. If the part is in shutdown, current limit, thermal shutdown, or falls below 90% of the nominal output voltage, PG immediately (See Datasheet)", 8 VIN (power) "Regulator Input Supply. Bypass VIN to GND with a 1 uF or greater capacitor.", 9 EP (power) "Exposed Pad. Exposed paddle on the bottom of the package. The EPAD enhances thermal performance and is electrically connected to GND inside the package. It is highly recommended that the EPAD be connected to the ground plane (See Datasheet)"

## ADP7104ARDZ-1.8-R7
designator U?
500 mA, Low Noise, CMOS LDO, 3.3 to 20 V Vin, 1.8 V Vout, Industrial, 8-pin SOIC (RD-8-2), Reel; Manufacturer: Analog Devices; PartNumber: ADP7104ARDZ-1.8-R7; Iout max: 500mA; Preset Vout Values (V): 1.8; Supply Current IGND @ Small Load: 400uA; Vin (max) (V): 20; Vin (min) (V): 3.3; DatasheetVersion: Rev. B; PackageVersion: Jan-05; PackageReference: RD-8-2; PackageDescription: 8-Pin Standard Small Outline Package, Body 4.9 x 3.9 mm, Pitch 1.27 mm; Supplier 1: Digi-Key; Supplier Part Number 1: ADP7104ARDZ-1.8-R7TR-ND; Supplier 2: Digi-Key; Supplier Part Number 2: ADP7104ARDZ-1.8-R7CT-ND; Supplier 3: Digi-Key; Supplier Part Number 3: ADP7104ARDZ-1.8-R7DKR-ND; Supplier 4: Mouser; Supplier Part Number 4: 584-ADP7104ARDZ1.8R7; Packing: Reel; Mounting Technology: Surface Mount; Code_JEDEC: MS-012-AA; ComponentLink1Description: Manufacturer URL; ComponentLink1URL: http://www.analog.com/en/index.html; ComponentLink2Description: Datasheet; ComponentLink2URL: http://www.analog.com/static/imported-files/data_sheets/ADP7104.pdf; ComponentLink3Description: Package Specification; ComponentLink3URL: http://www.analog.com/static/imported-files/packages/62062404671038RD_8_2.pdf; ComponentLink4Description: URL Link1; ComponentLink4URL: Product URL:http://www.analog.com/en/ADP7104/productSearch.html
footprint ADI-RD-8-2_N (SOIC, 8-Leads, Body 4.9x3.9mm, Pitch 1.27mm, Thermal Pad 3.098x2.41mm, IPC Medium Density)
footprint ADI-RD-8-2_L (SOIC, 8-Leads, Body 4.9x3.9mm, Pitch 1.27mm, Thermal Pad 3.098x2.41mm, IPC High Density)
footprint ADI-RD-8-2_M (SOIC, 8-Leads, Body 4.9x3.9mm, Pitch 1.27mm, Thermal Pad 3.098x2.41mm, IPC Low Density)
pins: 1 VOUT (power) "Regulated Output Voltage. Bypass VOUT to GND with a 1 uF or greater capacitor.", 2 SENSE (in), 3 GND (power) "Ground.", 4 NC "Do Not Connect to this Pin.", 5 EN/UVLO (in), 6 GND (power) "Ground.", 7 PG (oc) "Power Good. This open-drain output requires an external pull-up resistor to VIN or VOUT. If the part is in shutdown, current limit, thermal shutdown, or falls below 90% of the nominal output voltage, PG immediately (See Datasheet)", 8 VIN (power) "Regulator Input Supply. Bypass VIN to GND with a 1 uF or greater capacitor.", 9 EP (power) "Exposed Pad. Exposed paddle on the bottom of the package. The EPAD enhances thermal performance and is electrically connected to GND inside the package. It is highly recommended that the EPAD be connected to the ground plane (See Datasheet)"

## ADP7104ARDZ-2.5-R7
designator U?
500 mA, Low Noise, CMOS LDO, 3.3 to 20 V Vin, 2.5 V Vout, Industrial, 8-pin SOIC (RD-8-2), Reel; Manufacturer: Analog Devices; PartNumber: ADP7104ARDZ-2.5-R7; Iout max: 500mA; Preset Vout Values (V): 2.5; Supply Current IGND @ Small Load: 400uA; Vin (max) (V): 20; Vin (min) (V): 3.3; DatasheetVersion: Rev. B; PackageVersion: Jan-05; PackageReference: RD-8-2; PackageDescription: 8-Pin Standard Small Outline Package, Body 4.9 x 3.9 mm, Pitch 1.27 mm; Supplier 1: Digi-Key; Supplier Part Number 1: ADP7104ARDZ-2.5-R7TR-ND; Supplier 2: Digi-Key; Supplier Part Number 2: ADP7104ARDZ-2.5-R7CT-ND; Supplier 3: Digi-Key; Supplier Part Number 3: ADP7104ARDZ-2.5-R7DKR-ND; Supplier 4: Newark; Supplier Part Number 4: 93T9984; Supplier 5: Mouser; Supplier Part Number 5: 584-ADP7104ARDZ2.5R7; Packing: Reel; Mounting Technology: Surface Mount; Code_JEDEC: MS-012-AA; ComponentLink1Description: Manufacturer URL; ComponentLink1URL: http://www.analog.com/en/index.html; ComponentLink2Description: Datasheet; ComponentLink2URL: http://www.analog.com/static/imported-files/data_sheets/ADP7104.pdf; ComponentLink3Description: Package Specification; ComponentLink3URL: http://www.analog.com/static/imported-files/packages/62062404671038RD_8_2.pdf; ComponentLink4Description: URL Link1; ComponentLink4URL: Product URL:http://www.analog.com/en/ADP7104/productSearch.html
footprint ADI-RD-8-2_N (SOIC, 8-Leads, Body 4.9x3.9mm, Pitch 1.27mm, Thermal Pad 3.098x2.41mm, IPC Medium Density)
footprint ADI-RD-8-2_L (SOIC, 8-Leads, Body 4.9x3.9mm, Pitch 1.27mm, Thermal Pad 3.098x2.41mm, IPC High Density)
footprint ADI-RD-8-2_M (SOIC, 8-Leads, Body 4.9x3.9mm, Pitch 1.27mm, Thermal Pad 3.098x2.41mm, IPC Low Density)
pins: 1 VOUT (power) "Regulated Output Voltage. Bypass VOUT to GND with a 1 uF or greater capacitor.", 2 SENSE (in), 3 GND (power) "Ground.", 4 NC "Do Not Connect to this Pin.", 5 EN/UVLO (in), 6 GND (power) "Ground.", 7 PG (oc) "Power Good. This open-drain output requires an external pull-up resistor to VIN or VOUT. If the part is in shutdown, current limit, thermal shutdown, or falls below 90% of the nominal output voltage, PG immediately (See Datasheet)", 8 VIN (power) "Regulator Input Supply. Bypass VIN to GND with a 1 uF or greater capacitor.", 9 EP (power) "Exposed Pad. Exposed paddle on the bottom of the package. The EPAD enhances thermal performance and is electrically connected to GND inside the package. It is highly recommended that the EPAD be connected to the ground plane (See Datasheet)"

## ADP7104ARDZ-3.0-R7
designator U?
500 mA, Low Noise, CMOS LDO, 3.3 to 20 V Vin, 3 V Vout, Industrial, 8-pin SOIC (RD-8-2), Reel; Manufacturer: Analog Devices; PartNumber: ADP7104ARDZ-3.0-R7; Iout max: 500mA; Preset Vout Values (V): 3.0; Supply Current IGND @ Small Load: 400uA; Vin (max) (V): 20; Vin (min) (V): 3.3; DatasheetVersion: Rev. B; PackageVersion: Jan-05; PackageReference: RD-8-2; PackageDescription: 8-Pin Standard Small Outline Package, Body 4.9 x 3.9 mm, Pitch 1.27 mm; Supplier 1: Digi-Key; Supplier Part Number 1: ADP7104ARDZ-3.0-R7TR-ND; Supplier 2: Digi-Key; Supplier Part Number 2: ADP7104ARDZ-3.0-R7CT-ND; Supplier 3: Digi-Key; Supplier Part Number 3: ADP7104ARDZ-3.0-R7DKR-ND; Supplier 4: Newark; Supplier Part Number 4: 93T9985; Supplier 5: Mouser; Supplier Part Number 5: 584-ADP7104ARDZ3.0R7; Packing: Reel; Mounting Technology: Surface Mount; Code_JEDEC: MS-012-AA; ComponentLink1Description: Manufacturer URL; ComponentLink1URL: http://www.analog.com/en/index.html; ComponentLink2Description: Datasheet; ComponentLink2URL: http://www.analog.com/static/imported-files/data_sheets/ADP7104.pdf; ComponentLink3Description: Package Specification; ComponentLink3URL: http://www.analog.com/static/imported-files/packages/62062404671038RD_8_2.pdf; ComponentLink4Description: URL Link1; ComponentLink4URL: Product URL:http://www.analog.com/en/ADP7104/productSearch.html
footprint ADI-RD-8-2_N (SOIC, 8-Leads, Body 4.9x3.9mm, Pitch 1.27mm, Thermal Pad 3.098x2.41mm, IPC Medium Density)
footprint ADI-RD-8-2_L (SOIC, 8-Leads, Body 4.9x3.9mm, Pitch 1.27mm, Thermal Pad 3.098x2.41mm, IPC High Density)
footprint ADI-RD-8-2_M (SOIC, 8-Leads, Body 4.9x3.9mm, Pitch 1.27mm, Thermal Pad 3.098x2.41mm, IPC Low Density)
pins: 1 VOUT (power) "Regulated Output Voltage. Bypass VOUT to GND with a 1 uF or greater capacitor.", 2 SENSE (in), 3 GND (power) "Ground.", 4 NC "Do Not Connect to this Pin.", 5 EN/UVLO (in), 6 GND (power) "Ground.", 7 PG (oc) "Power Good. This open-drain output requires an external pull-up resistor to VIN or VOUT. If the part is in shutdown, current limit, thermal shutdown, or falls below 90% of the nominal output voltage, PG immediately (See Datasheet)", 8 VIN (power) "Regulator Input Supply. Bypass VIN to GND with a 1 uF or greater capacitor.", 9 EP (power) "Exposed Pad. Exposed paddle on the bottom of the package. The EPAD enhances thermal performance and is electrically connected to GND inside the package. It is highly recommended that the EPAD be connected to the ground plane (See Datasheet)"

## ADP7104ARDZ-3.3-R7
designator U?
500 mA, Low Noise, CMOS LDO, 3.3 to 20 V Vin, 3.3 V Vout, Industrial, 8-pin SOIC (RD-8-2), Reel; Manufacturer: Analog Devices; PartNumber: ADP7104ARDZ-3.3-R7; Iout max: 500mA; Preset Vout Values (V): 3.3; Supply Current IGND @ Small Load: 400uA; Vin (max) (V): 20; DatasheetVersion: Rev. B; PackageVersion: Jan-05; PackageReference: RD-8-2; PackageDescription: 8-Pin Standard Small Outline Package, Body 4.9 x 3.9 mm, Pitch 1.27 mm; Supplier 1: Digi-Key; Supplier Part Number 1: ADP7104ARDZ-3.3-R7TR-ND; Supplier 2: Digi-Key; Supplier Part Number 2: ADP7104ARDZ-3.3-R7CT-ND; Supplier 3: Digi-Key; Supplier Part Number 3: ADP7104ARDZ-3.3-R7DKR-ND; Supplier 4: Newark; Supplier Part Number 4: 93T9986; Supplier 5: Mouser; Supplier Part Number 5: 584-ADP7104ARDZ3.3R7; Packing: Reel; Vin (min) (V): 3.3; Mounting Technology: Surface Mount; Code_JEDEC: MS-012-AA; ComponentLink1Description: Manufacturer URL; ComponentLink1URL: http://www.analog.com/en/index.html; ComponentLink2Description: Datasheet; ComponentLink2URL: http://www.analog.com/static/imported-files/data_sheets/ADP7104.pdf; ComponentLink3Description: Package Specification; ComponentLink3URL: http://www.analog.com/static/imported-files/packages/62062404671038RD_8_2.pdf; ComponentLink4Description: URL Link1; ComponentLink4URL: Product URL:http://www.analog.com/en/ADP7104/productSearch.html
footprint ADI-RD-8-2_N (SOIC, 8-Leads, Body 4.9x3.9mm, Pitch 1.27mm, Thermal Pad 3.098x2.41mm, IPC Medium Density)
footprint ADI-RD-8-2_L (SOIC, 8-Leads, Body 4.9x3.9mm, Pitch 1.27mm, Thermal Pad 3.098x2.41mm, IPC High Density)
footprint ADI-RD-8-2_M (SOIC, 8-Leads, Body 4.9x3.9mm, Pitch 1.27mm, Thermal Pad 3.098x2.41mm, IPC Low Density)
pins: 1 VOUT (power) "Regulated Output Voltage. Bypass VOUT to GND with a 1 uF or greater capacitor.", 2 SENSE (in), 3 GND (power) "Ground.", 4 NC "Do Not Connect to this Pin.", 5 EN/UVLO (in), 6 GND (power) "Ground.", 7 PG (oc) "Power Good. This open-drain output requires an external pull-up resistor to VIN or VOUT. If the part is in shutdown, current limit, thermal shutdown, or falls below 90% of the nominal output voltage, PG immediately (See Datasheet)", 8 VIN (power) "Regulator Input Supply. Bypass VIN to GND with a 1 uF or greater capacitor.", 9 EP (power) "Exposed Pad. Exposed paddle on the bottom of the package. The EPAD enhances thermal performance and is electrically connected to GND inside the package. It is highly recommended that the EPAD be connected to the ground plane (See Datasheet)"

## ADP7104ARDZ-5.0-R7
designator U?
500 mA, Low Noise, CMOS LDO, 3.3 to 20 V Vin, 5 V Vout, Industrial, 8-pin SOIC (RD-8-2), Reel; Manufacturer: Analog Devices; PartNumber: ADP7104ARDZ-5.0-R7; Iout max: 500mA; Preset Vout Values (V): 5.0; Supply Current IGND @ Small Load: 400uA; Vin (max) (V): 20; Vin (min) (V): 3.3; DatasheetVersion: Rev. B; PackageVersion: Jan-05; PackageReference: RD-8-2; PackageDescription: 8-Pin Standard Small Outline Package, Body 4.9 x 3.9 mm, Pitch 1.27 mm; Supplier 1: Digi-Key; Supplier Part Number 1: ADP7104ARDZ-5.0-R7TR-ND; Supplier 2: Digi-Key; Supplier Part Number 2: ADP7104ARDZ-5.0-R7CT-ND; Supplier 3: Digi-Key; Supplier Part Number 3: ADP7104ARDZ-5.0-R7DKR-ND; Supplier 4: Newark; Supplier Part Number 4: 93T9987; Supplier 5: Mouser; Supplier Part Number 5: 584-ADP7104ARDZ5.0R7; Packing: Reel; Mounting Technology: Surface Mount; Code_JEDEC: MS-012-AA; ComponentLink1Description: Manufacturer URL; ComponentLink1URL: http://www.analog.com/en/index.html; ComponentLink2Description: Datasheet; ComponentLink2URL: http://www.analog.com/static/imported-files/data_sheets/ADP7104.pdf; ComponentLink3Description: Package Specification; ComponentLink3URL: http://www.analog.com/static/imported-files/packages/62062404671038RD_8_2.pdf; ComponentLink4Description: URL Link1; ComponentLink4URL: Product URL:http://www.analog.com/en/ADP7104/productSearch.html
footprint ADI-RD-8-2_N (SOIC, 8-Leads, Body 4.9x3.9mm, Pitch 1.27mm, Thermal Pad 3.098x2.41mm, IPC Medium Density)
footprint ADI-RD-8-2_L (SOIC, 8-Leads, Body 4.9x3.9mm, Pitch 1.27mm, Thermal Pad 3.098x2.41mm, IPC High Density)
footprint ADI-RD-8-2_M (SOIC, 8-Leads, Body 4.9x3.9mm, Pitch 1.27mm, Thermal Pad 3.098x2.41mm, IPC Low Density)
pins: 1 VOUT (power) "Regulated Output Voltage. Bypass VOUT to GND with a 1 uF or greater capacitor.", 2 SENSE (in), 3 GND (power) "Ground.", 4 NC "Do Not Connect to this Pin.", 5 EN/UVLO (in), 6 GND (power) "Ground.", 7 PG (oc) "Power Good. This open-drain output requires an external pull-up resistor to VIN or VOUT. If the part is in shutdown, current limit, thermal shutdown, or falls below 90% of the nominal output voltage, PG immediately (See Datasheet)", 8 VIN (power) "Regulator Input Supply. Bypass VIN to GND with a 1 uF or greater capacitor.", 9 EP (power) "Exposed Pad. Exposed paddle on the bottom of the package. The EPAD enhances thermal performance and is electrically connected to GND inside the package. It is highly recommended that the EPAD be connected to the ground plane (See Datasheet)"